# EAGLE library part SQW-132-01-F-D (library SamacSys_Parts)
64 Position, Cost Effective Rugged PCB Sockets, 2.00mm pitch Source: Datasheet <http://suddendocs.samtec.com/prints/sqw-1xx-01-x-x-xxx-mkt.pdf>
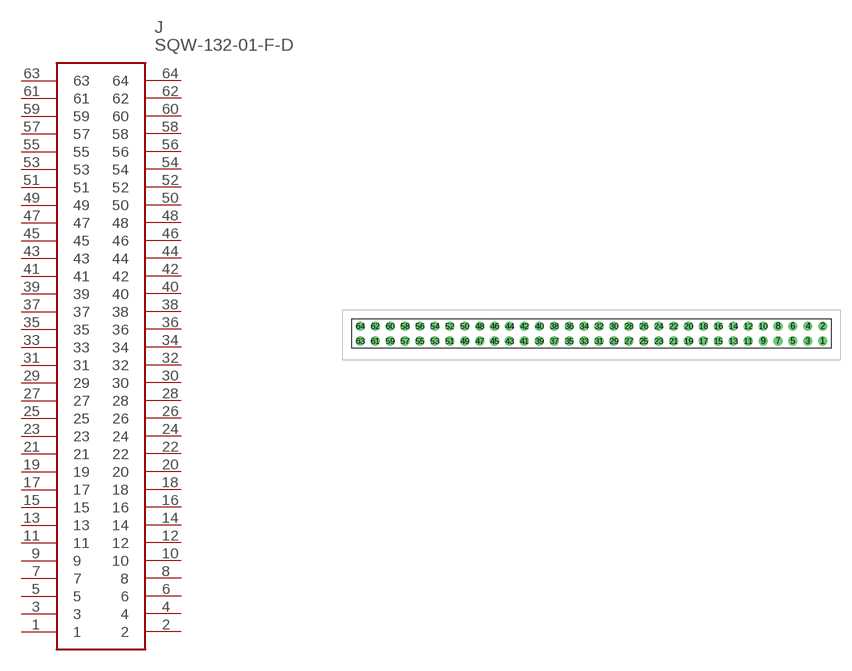
[diagram p204: symbol with the pads of SQW-132-01-XX; footprint SQW-132-01-XX]

Designator prefix J

## SQW-132-01-F-D (DESCRIPTION: 64 Position, Cost Effective Rugged PCB Sockets, 2.00mm pitch; HEIGHT: mm; MANUFACTURER_NAME: SAMTEC; MANUFACTURER_PART_NUMBER: SQW-132-01-F-D)  [SQW-132-01-XX]
1  1
2  2
3  3
4  4
5  5
6  6
7  7
8  8
9  9
10  10
11  11
12  12
13  13
14  14
15  15
16  16
17  17
18  18
19  19
20  20
21  21
22  22
23  23
24  24
25  25
26  26
27  27
28  28
29  29
30  30
31  31
32  32
33  33
34  34
35  35
36  36
37  37
38  38
39  39
40  40
41  41
42  42
43  43
44  44
45  45
46  46
47  47
48  48
49  49
50  50
51  51
52  52
53  53
54  54
55  55
56  56
57  57
58  58
59  59
60  60
61  61
62  62
63  63
64  64

## Footprint SQW-132-01-XX (pad centres in mm)
SQW-132-01-XX-D
drill 0.71 pad 1.1: 1 0,0; 2 0,2; 3 -2,0; 4 -2,2; 5 -4,0; 6 -4,2; 7 -6,0; 8 -6,2; 9 -8,0; 10 -8,2; 11 -10,0; 12 -10,2; 13 -12,0; 14 -12,2; 15 -14,0; 16 -14,2; 17 -16,0; 18 -16,2; 19 -18,0; 20 -18,2; 21 -20,0; 22 -20,2; 23 -22,0; 24 -22,2; 25 -24,0; 26 -24,2; 27 -26,0; 28 -26,2; 29 -28,0; 30 -28,2; 31 -30,0; 32 -30,2; 33 -32,0; 34 -32,2; 35 -34,0; 36 -34,2; 37 -36,0; 38 -36,2; 39 -38,0; 40 -38,2; 41 -40,0; 42 -40,2; 43 -42,0; 44 -42,2; 45 -44,0; 46 -44,2; 47 -46,0; 48 -46,2; 49 -48,0; 50 -48,2; 51 -50,0; 52 -50,2; 53 -52,0; 54 -52,2; 55 -54,0; 56 -54,2; 57 -56,0; 58 -56,2; 59 -58,0; 60 -58,2; 61 -60,0; 62 -60,2; 63 -62,0; 64 -62,2